# Altium footprint library LM2596.PcbLib: 2 footprints
Each footprint in its own frame and in the unit in brackets; x right, y up, seen from the top. Pads: shape width x height; smd on the part's side, far side on the other; paste and mask are expansions set on the pad; w line width, h text height; cw(c..) or ccw(c..) is an arc to the next point about the centre after c.
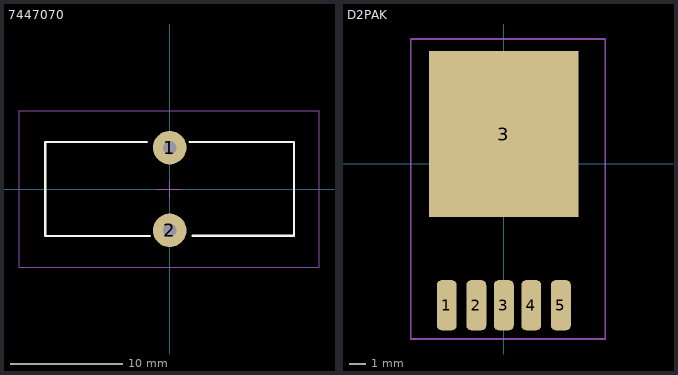
[diagram p0: the footprints below, top view; thin cyan lines are the x and y axes]

## 7447070 [mm]
pads (2):
  round 3 hole 1.2 mask+0.05: 1(0,3.695) 2(0,-3.695)
Top Overlay:
  lines w0.2: -2.032,4.191 -11.111,4.191 -11.111,-4.195 -1.778,-4.195 ; 1.778,4.207 11.111,4.207 11.111,-4.179 2.032,-4.179
Mechanical 3 (Mech15):
  lines w0.1: 0,0.762 0,-0.762 0,0 ; 1.016,0 0,0 ; 0,0 -1.143,0 0,0 ; -13.462,-6.985 13.335,-6.985 13.335,6.985 -11.43,6.985 -13.462,6.985 -13.462,-6.985
3D body "7447070_Download_STP_7447070_rev1 (1).stp": height 22.08, standoff -14.1, extent -11.111,-4.195 11.111,4.195

## D2PAK [mm]
pads (6):
  rrect50% 1.2x3.015 smd mask+0.05: 1(-3.429,-8.509) 2(-1.651,-8.509) 3(0,-8.509) 4(1.651,-8.509) 5(3.429,-8.509)
  rect 9x10 smd mask+0.05: 3(0,1.778)
Mechanical 3 (Mech15):
  lines w0.1: -5.588,3.683 -5.588,7.493 ; -1.524,-0.127 1.778,-0.127 ; 0,-1.905 0,1.27 ; -5.588,7.493 -5.588,-10.541 6.096,-10.541 6.096,7.493 2.889,7.493 -3.016,7.493 -5.588,7.493
3D body "TO263-5-1.stp": height 4.22, standoff 0, extent -4.869,-9.079 4.953,5.523